# Altium footprint library SD_Card.PcbLib: 2 footprints
Each footprint in its own frame and in the unit in brackets; x right, y up, seen from the top. Pads: shape width x height; smd on the part's side, far side on the other; paste and mask are expansions set on the pad; w line width, h text height; cw(c..) or ccw(c..) is an arc to the next point about the centre after c.
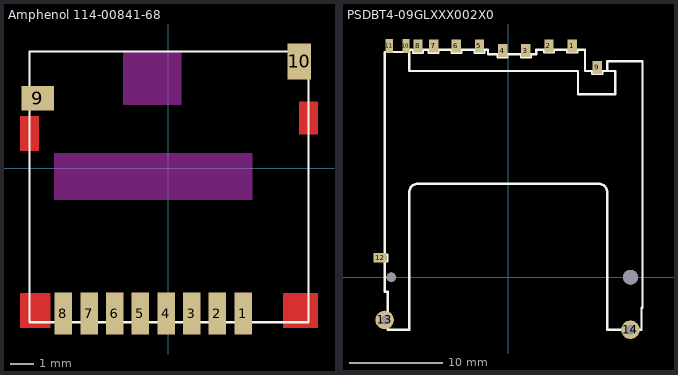
[diagram p0: the footprints below, top view; thin cyan lines are the x and y axes]

## Amphenol 114-00841-68 [mm] "Micro SD None Push Connector Top Mount"
height 1.68
pads (10):
  rect 0.75x1.8 smd: 1(3.2,-6.225) 2(2.1,-6.225) 3(1,-6.225) 4(-0.1,-6.225) 5(-1.2,-6.225) 6(-2.3,-6.225) 7(-3.4,-6.225) 8(-4.5,-6.225)
  rect 1.4x1.05 smd: 9(-5.6,3)
  rect 1x1.55 smd: 10(5.6,4.575)
Top Layer:
  rectangle: 5.6,1.45 6.4,2.85
  rectangle: -6.35,0.75 -5.55,2.25
  rectangle: 4.9,-6.85 6.4,-5.35
  rectangle: -6.35,-6.85 -5.05,-5.35
Top Overlay:
  lines w0.1: -5.95,-6.6 -5.95,5 6,5 6,-6.6 -5.95,-6.6
Top Paste:
  rectangle: 5.6,1.45 6.4,2.85
  rectangle: -6.35,0.75 -5.55,2.25
  rectangle: 4.9,-6.85 6.4,-5.35
  rectangle: -6.35,-6.85 -5.05,-5.35
Top Solder:
  rectangle: 5.55,1.4 6.45,2.9
  rectangle: -6.4,0.7 -5.5,2.3
  rectangle: 4.85,-6.9 6.45,-5.3
  rectangle: -6.4,-6.9 -5,-5.3
Keep-Out Layer:
  rectangle: -4.9,-1.35 3.6,0.65
  rectangle: -1.95,2.7 0.55,5

## PSDBT4-09GLXXX002X0 [mm] "SD Memory Card Slot"
height 2.3
pads (14):
  rect 1x1.4 smd: 1(6.87,24.95) 2(4.37,24.95) 3(1.87,24.45) 4(-0.63,24.45) 5(-3.13,24.95) 6(-5.63,24.95) 7(-8.05,24.95) 8(-9.75,24.95) 9(9.57,22.65)
  rect 0.8x1.5 smd: 10(-11.05,24.95) 11(-12.85,24.95)
  rect 1.4x1 smd: 12(-13.85,2.1)
  round 2 hole 1: 13(-13.35,-4.6) 14(13.15,-5.65)
via 13.15,0 diameter 1.6 hole 1.6
via -12.64,0 diameter 1 hole 1
Top Overlay:
  lines w0.254: -10.75,24.3 -13.35,24.3 -13.35,2.75 -13.35,2.45 -13.05,2.45 -13.05,1.75 -13.35,1.75 -13.35,-1.55 -13,-1.55 -13,-5.65 -10.7,-5.65 -10.7,9.151 ; -9.751,10.1 9.7,10.1 ; 9.701,10.1 cw(c9.701,9.151) 10.65,9.15 10.65,-5.65 14.35,-5.65 14.35,-3.275 14.45,-3.275 14.45,23.3 10.65,23.3 10.65,22.25 ; -10.7,9.151 cw(c-9.751,9.151) -9.75,10.1 ccw(c-9.751,9.151) -10.7,9.151 ; -10.7,22.25 -10.7,24.55 -10.3,24.55 -10.3,24.2 -9.25,24.2 -9.25,24.55 -8.6,24.55 -8.6,24.2 -7.55,24.2 -7.55,24.55 -6.15,24.55 -6.15,24.2 -5.1,24.2 -5.1,24.55 -3.65,24.55 -3.65,24.2 -2.6,24.2 -2.6,24.55 -2.2,24.55 -2.2,24.05 -1.15,24.05 -1.15,23.75 -0.1,23.75 -0.1,24.05 1.35,24.05 1.35,23.75 2.4,23.75 2.4,24.05 3,24.05 3,24.55 3.85,24.55 3.85,24.25 4.9,24.25 4.9,24.55 6.35,24.55 6.35,24.25 7.4,24.25 7.4,24.55 8.25,24.55 8.25,22.25 9.05,22.25 9.05,21.95 10.1,21.95 10.1,22.25 11.5,22.25 11.5,19.75 7.5,19.75 7.5,22.25 -10.7,22.25